# EAGLE library part 47642-001 (library BluePillF4)
Micro-USB B Receptacle, Mid-Mount, with Through Hole Solder Tab, Gold (Au) Flash Plating, without Mylar, Lead-Free
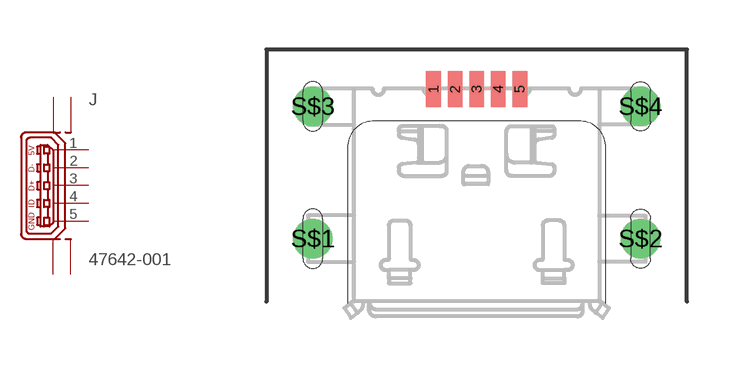
[diagram p4: symbol with the pads of 47662-001; footprint 47662-001]

Designator prefix J

## 47642-001 (HEIGHT: 1.52mm; PARTNO: 47642-0001)  [47662-001]
1  1  pas
2  2  pas
3  3  pas
4  4  pas
5  5  pas
S$1  M0  pas
S$2  M1  pas
S$3  M2  pas
S$4  M3  pas

## Footprint 47662-001 (pad centres in mm)
Micro-USB B Receptacle, Mid-Mount, with Through Hole Solder Tab, Gold (Au) Flash Plating, without Mylar, Lead-Free
smd 0.45 x 1.1: 1 -1.3,4.52; 2 -0.65,4.52; 3 0,4.52; 4 0.65,4.52; 5 1.3,4.52
drill 0.6 pad 1.2: S$1 -4.95,0; S$2 4.95,0; S$3 -4.95,4; S$4 4.95,4